# EAGLE library part A1251WR-S-8P (library con-CJT-A1251)
CJT A1251 8-way right-angle SMD
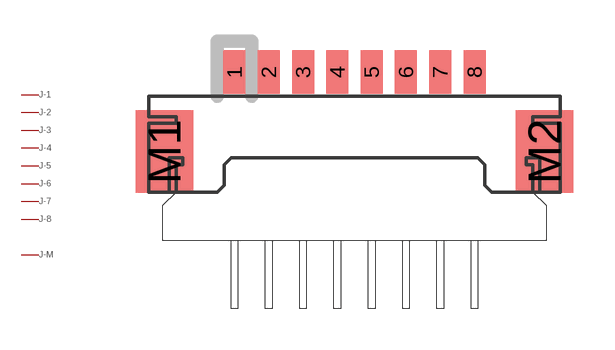
[diagram p0: symbol with the pads of A1251WR-S-8P; footprint A1251WR-S-8P]

Designator prefix J; gates -1=PIN -2=PIN -3=PIN -4=PIN -5=PIN -6=PIN -7=PIN -8=PIN -M=PIN

## A1251WR-S-8P  [A1251WR-S-8P]
1  -1:P
2  -2:P
3  -3:P
4  -4:P
5  -5:P
6  -6:P
7  -7:P
8  -8:P
M1  -M:P
M2  -M:P

## Footprint A1251WR-S-8P (pad centres in mm)
smd 0.8 x 1.6: 1 -4.375,3.875; 2 -3.125,3.875; 3 -1.875,3.875; 4 -0.625,3.875; 5 0.625,3.875; 6 1.875,3.875; 7 3.125,3.875; 8 4.375,3.875
smd 2.1 x 3: M1 -6.925,0.975; M2 6.925,0.975